# Altium schematic symbol library A6C.SchLib: 1 symbol
Pins are listed as number, name and electrical type; pins without a type are passive.

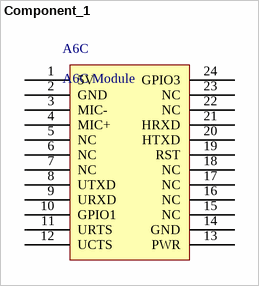
[diagram p0: symbol Component_1]

## Component_1
designator A6C, comment A6C Module
pins: 1 5V (power), 2 GND (power), 3 MIC-, 4 MIC+, 5 NC, 6 NC, 7 NC, 8 UTXD, 9 URXD, 10 GPIO1, 11 URTS, 12 UCTS, 13 PWR, 14 GND (power), 15 NC, 16 NC, 17 NC, 18 NC, 19 RST (power), 20 HTXD, 21 HRXD, 22 NC, 23 NC, 24 GPIO3